# Altium schematic symbol library TLV320AIC23.SchLib: 1 symbol
Pins are listed as number, name and electrical type; pins without a type are passive.

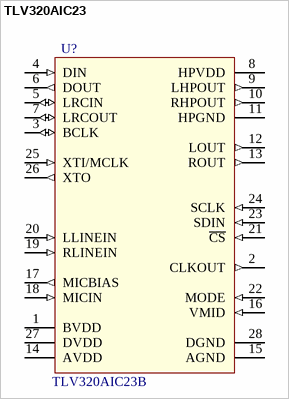
[diagram p0: symbol TLV320AIC23]

## TLV320AIC23
designator U?, comment TLV320AIC23B
Stereo Audio CODEC
footprint TSSOP28
ibis TLV320AIC23BPW (Model Description)
pins: 1 BVDD (power), 2 CLKOUT (out), 3 BCLK (io), 4 DIN (in), 5 LRCIN (io), 6 DOUT (out), 7 LRCOUT (io), 8 HPVDD (power), 9 LHPOUT (out), 10 RHPOUT (out), 11 HPGND (power), 12 LOUT (out), 13 ROUT (out), 14 AVDD (power), 15 AGND (power), 16 VMID (in), 17 MICBIAS (out), 18 MICIN (in), 19 RLINEIN (in), 20 LLINEIN (in), 21 ~{CS} (in), 22 MODE (in), 23 SDIN (in), 24 SCLK (in), 25 XTI/MCLK (in), 26 XTO (out), 27 DVDD (power), 28 DGND